# EAGLE library part DCM4623TD2K31E0M70 (library SamacSys_Parts)
Isolated DC/DC Converters 500W 270Vin 28Vout 4623 Package Source: Datasheet <https://componentsearchengine.com/Datasheets/1/DCM4623TD2K31E0M70.pdf>
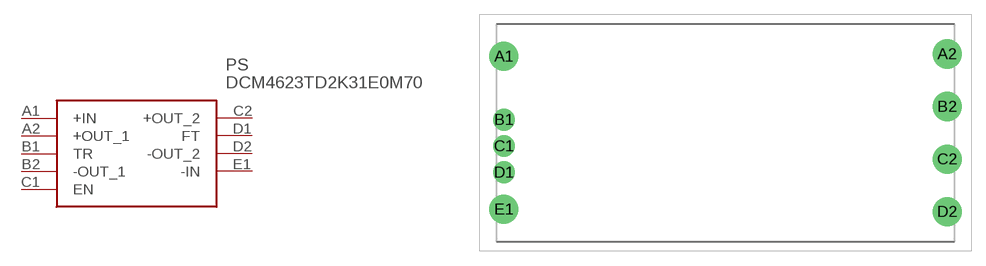
[diagram p0: symbol with the pads of DCM4623TD2N17C8T70; footprint DCM4623TD2N17C8T70]

Designator prefix PS

## DCM4623TD2K31E0M70 (Description: Isolated DC/DC Converters 500W 270Vin 28Vout 4623 Package; Height: 5mm; Manufacturer_Name: VICOR; Manufacturer_Part_Number: DCM4623TD2K31E0M70; Mouser_Part_Number: 492-DCM4623D2K31E0M7; Mouser_Price-Stock: https://www.mouser.com/Search/Refine.aspx?Keyword=492-DCM4623D2K31E0M7)  [DCM4623TD2N17C8T70]
A1  +IN
A2  +OUT_1
B1  TR
B2  -OUT_1
C1  EN
C2  +OUT_2
D1  FT
D2  -OUT_2
E1  -IN

## Footprint DCM4623TD2N17C8T70 (pad centres in mm)
DCM4623xD2N17C8y7z
drill 2.03 pad 3.045: A1 -23.19,8; A2 23.19,8.25; B2 23.19,2.75; C2 23.19,-2.75; D2 23.19,-8.25; E1 -23.19,-8
drill 1.52 pad 2.28: B1 -23.19,1.38; C1 -23.19,-1.38; D1 -23.19,-4.14